# Altium integrated library Linear Technology Operational Amplifiers (LT2000-LT6000).IntLib: 1710 symbols (part 67 of 75)
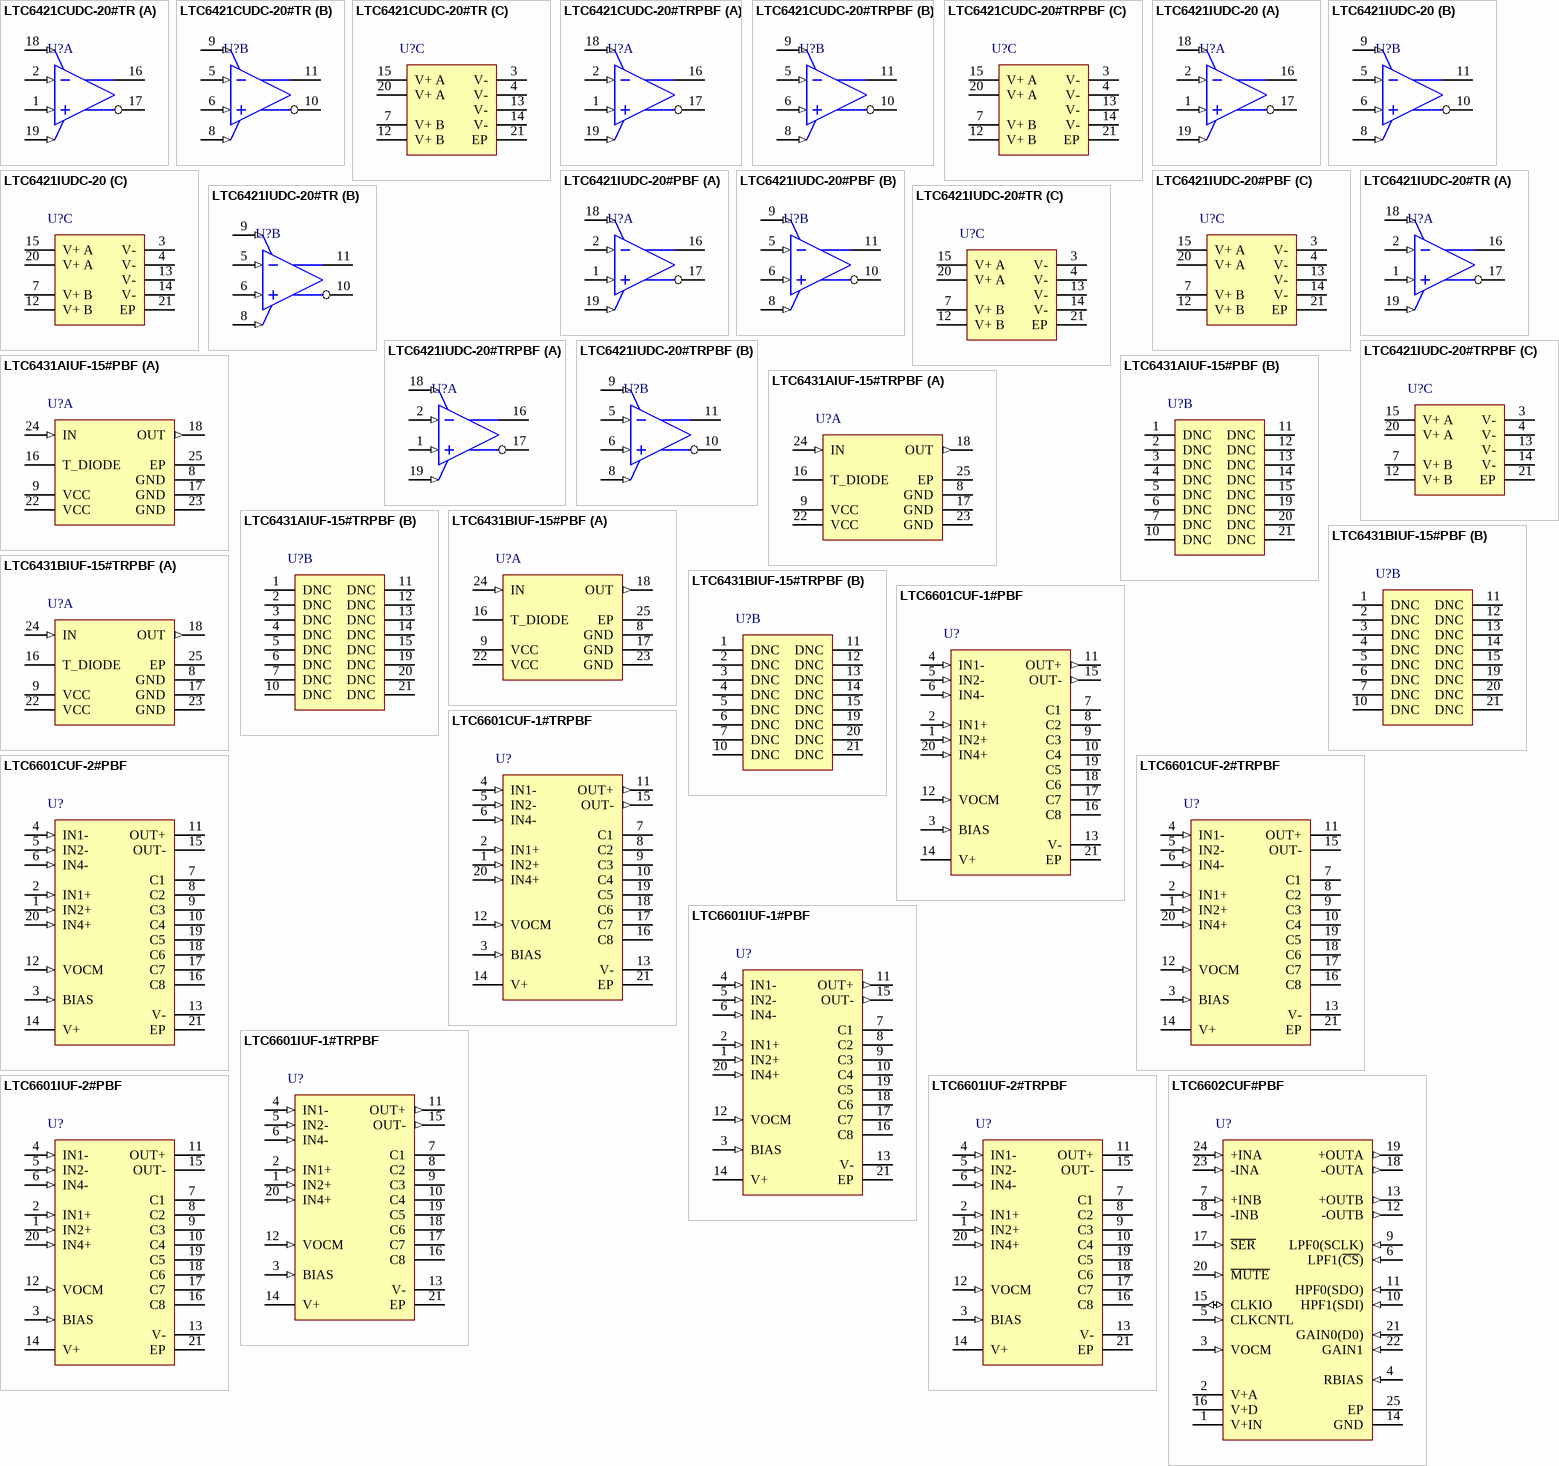
[diagram p146: symbols LTC6421CUDC-20#TR to LTC6602CUF#PBF]

## LTC6601CUF-2#PBF
designator U?
Single Channel, Low Power, Low Distortion, Pin Configurable Filter / ADC Driver, 28 MHz Typical GBW, 2.7 to 5.25 V, 20-Pin QFN (UF20), Commercial, Pb-Free; Linear Technology Part Number: LTC6601-2; Manufacturer: Linear Technology; PartNumber: LTC6601CUF-2#PBF; Channels (#): 1; GBW (MHz) Typical: 28; Is (mA) Typical: 32; Vos (mV) Typical: 0.25; Vs Max (V): 5.25; Vs Min (V): 2.7; PackageVersion: Rev A; PackageReference: LT-UF-20; PackageDescription: 20-Lead Plastic QFN, Body 4 x 4 mm, Pitch 0.5 mm; Supplier 1: Digi-Key; Supplier Part Number 1: LTC6601CUF-2#PBF-ND; Supplier 2: Farnell; Supplier Part Number 2: 1710921; Supplier 3: Newark; Supplier Part Number 3: 05R7681; RoHS: Pb-Free; Type: DIFF; Mounting Technology: Surface Mount; Code_JEDEC: MO-220; ComponentLink1Description: Manufacturer URL; ComponentLink1URL: http://www.linear.com/; ComponentLink2Description: Datasheet; ComponentLink2URL: http://cds.linear.com/docs/en/datasheet/66012f.pdf; ComponentLink3Description: Package Specification; ComponentLink3URL: http://cds.linear.com/docs/en/packaging/QFN_20_05-08-1710.pdf
footprint LT-UF-20_N (QFN, 20-Leads, Body 4x4mm, Pitch 0.5mm, Thermal Pad 2.45x2.45mm, IPC Medium Density)
footprint LT-UF-20_L (QFN, 20-Leads, Body 4x4mm, Pitch 0.5mm, Thermal Pad 2.45x2.45mm, IPC High Density)
footprint LT-UF-20_M (QFN, 20-Leads, Body 4x4mm, Pitch 0.5mm, Thermal Pad 2.45x2.45mm, IPC Low Density)
pins: 1 IN2+ (in) "Input to a trimmed 100ohm, 200ohm, 400ohm resistor which feeds a noninverting summing node. Can accept an input signal, be floated or tied to OUT-. For best performance, stray capacitance should be kept as low as possible by (See Datasheet)", 2 IN1+ (in) "Input to a trimmed 100ohm, 200ohm, 400ohm resistor which feeds a noninverting summing node. Can accept an input signal, be floated or tied to OUT-. For best performance, stray capacitance should be kept as low as possible by (See Datasheet)", 3 BIAS (in) "Input to a three-state comparator whose three states allow the user to tailor amplifier power. The pin impedance appears as a 150k resistor whose default open-circuit potential is 1.15V with respect to the V- power supply. (See Datasheet)", 4 IN1- (in) "Input to a trimmed 100ohm, 200ohm, 400ohm resistor which feeds an inverting summing node. Can accept an input signal, be floated or tied to OUT+. For best performance, it is highly recommended that stray capacitance be kept (See Datasheet)", 5 IN2- (in) "Input to a trimmed 100ohm, 200ohm, 400ohm resistor which feeds an inverting summing node. Can accept an input signal, be floated or tied to OUT+. For best performance, it is highly recommended that stray capacitance be kept (See Datasheet)", 6 IN4- (in) "Input to a trimmed 100ohm, 200ohm, 400ohm resistor which feeds an inverting summing node. Can accept an input signal, be floated or tied to OUT+. For best performance, it is highly recommended that stray capacitance be kept (See Datasheet)", 7 C1 "Input to a trimmed 16.1pF, 33.3pF capacitor which feeds a noninverting summing node. Typically, either float or tie to OUT-. If either of these pins is tied to a low impedance source other than OUT-, a resistance of at least (See Datasheet)", 8 C2 "Input to a trimmed 16.1pF, 33.3pF capacitor which feeds a noninverting summing node. Typically, either float or tie to OUT-. If either of these pins is tied to a low impedance source other than OUT-, a resistance of at least (See Datasheet)", 9 C3 "Input to a trimmed 10.55pF, 21.1pF capacitor which feeds the amplifier inverting summing node. Typically, either float or tie to OUT+. For best performance, it is highly recommended that stray capacitance be kept to as low (See Datasheet)", 10 C4 "Input to a trimmed 10.55pF, 21.1pF capacitor which feeds the amplifier inverting summing node. Typically, either float or tie to OUT+. For best performance, it is highly recommended that stray capacitance be kept to as low (See Datasheet)", 11 OUT+ (oc) "Output Pins. Besides driving the internal feedback network, each pin can drive an additional 50ohm to ground with typical short-circuit current limiting of +/-65mA. Capacitive loading of these pins should be minimized by (See Datasheet)", 12 VOCM (in) "Output Common Mode Reference Voltage. The voltage on VOCM sets the output common mode voltage level (which is defi ned as the average of the voltages on the OUT+ and OUT- pins). The VOCM pin is the midpoint of an internal (See Datasheet)", 13 V- (power) "Power Supply Pins. It is critical that close attention be paid to supply bypassing. For single supply applications (Pin 13 grounded), it is recommended that a high quality 0.1uF surface mount ceramic bypass capacitor (X7R (See Datasheet)", 14 V+ (power) "Power Supply Pins. It is critical that close attention be paid to supply bypassing. For single supply applications (Pin 13 grounded), it is recommended that a high quality 0.1uF surface mount ceramic bypass capacitor (X7R (See Datasheet)", 15 OUT- (oc) "Output Pins. Besides driving the internal feedback network, each pin can drive an additional 50ohm to ground with typical short-circuit current limiting of +/-65mA. Capacitive loading of these pins should be minimized by (See Datasheet)", 16 C8 "Input to a trimmed 10.55pF, 21.1pF capacitor which feeds the amplifier noninverting summing node. Typically, either fl oat or tie to OUT-. For best performance, stray capacitance should be kept as low as possible by keeping (See Datasheet)", 17 C7 "Input to a trimmed 10.55pF, 21.1pF capacitor which feeds the amplifier noninverting summing node. Typically, either fl oat or tie to OUT-. For best performance, stray capacitance should be kept as low as possible by keeping (See Datasheet)", 18 C6 "Input to a trimmed 16.1pF, 33.3pF capacitor which feeds an inverting summing node. Typically, either float or tie to OUT+. If either of these pins are tied to a low impedance source other than OUT+, a resistance of at least (See Datasheet)", 19 C5 "Input to a trimmed 16.1pF, 33.3pF capacitor which feeds an inverting summing node. Typically, either float or tie to OUT+. If either of these pins are tied to a low impedance source other than OUT+, a resistance of at least (See Datasheet)", 20 IN4+ (in) "Input to a trimmed 100ohm, 200ohm, 400ohm resistor which feeds a noninverting summing node. Can accept an input signal, be floated or tied to OUT-. For best performance, stray capacitance should be kept as low as possible by (See Datasheet)", 21 EP (power) "Always tie the underlying Exposed Pad to V- (Pin 13). If split supplies are used, do not tie the pad to ground. Tie it to V-."

## LTC6601CUF-2#TRPBF
designator U?
Single Channel, Low Power, Low Distortion, Pin Configurable Filter / ADC Driver, 28 MHz Typical GBW, 2.7 to 5.25 V, 20-Pin QFN (UF20), Commercial, Pb-Free, Reel; Linear Technology Part Number: LTC6601-2; Manufacturer: Linear Technology; PartNumber: LTC6601CUF-2#TRPBF; Channels (#): 1; GBW (MHz) Typical: 28; Is (mA) Typical: 32; Vos (mV) Typical: 0.25; Vs Max (V): 5.25; Vs Min (V): 2.7; PackageVersion: Rev A; PackageReference: LT-UF-20; PackageDescription: 20-Lead Plastic QFN, Body 4 x 4 mm, Pitch 0.5 mm; Supplier 1: Digi-Key; Supplier Part Number 1: LTC6601CUF-2#TRPBF-ND; Packing: Reel; RoHS: Pb-Free; Type: DIFF; Mounting Technology: Surface Mount; Code_JEDEC: MO-220; ComponentLink1Description: Manufacturer URL; ComponentLink1URL: http://www.linear.com/; ComponentLink2Description: Datasheet; ComponentLink2URL: http://cds.linear.com/docs/en/datasheet/66012f.pdf; ComponentLink3Description: Package Specification; ComponentLink3URL: http://cds.linear.com/docs/en/packaging/QFN_20_05-08-1710.pdf
footprint LT-UF-20_N (QFN, 20-Leads, Body 4x4mm, Pitch 0.5mm, Thermal Pad 2.45x2.45mm, IPC Medium Density)
footprint LT-UF-20_L (QFN, 20-Leads, Body 4x4mm, Pitch 0.5mm, Thermal Pad 2.45x2.45mm, IPC High Density)
footprint LT-UF-20_M (QFN, 20-Leads, Body 4x4mm, Pitch 0.5mm, Thermal Pad 2.45x2.45mm, IPC Low Density)
pins: 1 IN2+ (in) "Input to a trimmed 100ohm, 200ohm, 400ohm resistor which feeds a noninverting summing node. Can accept an input signal, be floated or tied to OUT-. For best performance, stray capacitance should be kept as low as possible by (See Datasheet)", 2 IN1+ (in) "Input to a trimmed 100ohm, 200ohm, 400ohm resistor which feeds a noninverting summing node. Can accept an input signal, be floated or tied to OUT-. For best performance, stray capacitance should be kept as low as possible by (See Datasheet)", 3 BIAS (in) "Input to a three-state comparator whose three states allow the user to tailor amplifier power. The pin impedance appears as a 150k resistor whose default open-circuit potential is 1.15V with respect to the V- power supply. (See Datasheet)", 4 IN1- (in) "Input to a trimmed 100ohm, 200ohm, 400ohm resistor which feeds an inverting summing node. Can accept an input signal, be floated or tied to OUT+. For best performance, it is highly recommended that stray capacitance be kept (See Datasheet)", 5 IN2- (in) "Input to a trimmed 100ohm, 200ohm, 400ohm resistor which feeds an inverting summing node. Can accept an input signal, be floated or tied to OUT+. For best performance, it is highly recommended that stray capacitance be kept (See Datasheet)", 6 IN4- (in) "Input to a trimmed 100ohm, 200ohm, 400ohm resistor which feeds an inverting summing node. Can accept an input signal, be floated or tied to OUT+. For best performance, it is highly recommended that stray capacitance be kept (See Datasheet)", 7 C1 "Input to a trimmed 16.1pF, 33.3pF capacitor which feeds a noninverting summing node. Typically, either float or tie to OUT-. If either of these pins is tied to a low impedance source other than OUT-, a resistance of at least (See Datasheet)", 8 C2 "Input to a trimmed 16.1pF, 33.3pF capacitor which feeds a noninverting summing node. Typically, either float or tie to OUT-. If either of these pins is tied to a low impedance source other than OUT-, a resistance of at least (See Datasheet)", 9 C3 "Input to a trimmed 10.55pF, 21.1pF capacitor which feeds the amplifier inverting summing node. Typically, either float or tie to OUT+. For best performance, it is highly recommended that stray capacitance be kept to as low (See Datasheet)", 10 C4 "Input to a trimmed 10.55pF, 21.1pF capacitor which feeds the amplifier inverting summing node. Typically, either float or tie to OUT+. For best performance, it is highly recommended that stray capacitance be kept to as low (See Datasheet)", 11 OUT+ (oc) "Output Pins. Besides driving the internal feedback network, each pin can drive an additional 50ohm to ground with typical short-circuit current limiting of +/-65mA. Capacitive loading of these pins should be minimized by (See Datasheet)", 12 VOCM (in) "Output Common Mode Reference Voltage. The voltage on VOCM sets the output common mode voltage level (which is defi ned as the average of the voltages on the OUT+ and OUT- pins). The VOCM pin is the midpoint of an internal (See Datasheet)", 13 V- (power) "Power Supply Pins. It is critical that close attention be paid to supply bypassing. For single supply applications (Pin 13 grounded), it is recommended that a high quality 0.1uF surface mount ceramic bypass capacitor (X7R (See Datasheet)", 14 V+ (power) "Power Supply Pins. It is critical that close attention be paid to supply bypassing. For single supply applications (Pin 13 grounded), it is recommended that a high quality 0.1uF surface mount ceramic bypass capacitor (X7R (See Datasheet)", 15 OUT- (oc) "Output Pins. Besides driving the internal feedback network, each pin can drive an additional 50ohm to ground with typical short-circuit current limiting of +/-65mA. Capacitive loading of these pins should be minimized by (See Datasheet)", 16 C8 "Input to a trimmed 10.55pF, 21.1pF capacitor which feeds the amplifier noninverting summing node. Typically, either fl oat or tie to OUT-. For best performance, stray capacitance should be kept as low as possible by keeping (See Datasheet)", 17 C7 "Input to a trimmed 10.55pF, 21.1pF capacitor which feeds the amplifier noninverting summing node. Typically, either fl oat or tie to OUT-. For best performance, stray capacitance should be kept as low as possible by keeping (See Datasheet)", 18 C6 "Input to a trimmed 16.1pF, 33.3pF capacitor which feeds an inverting summing node. Typically, either float or tie to OUT+. If either of these pins are tied to a low impedance source other than OUT+, a resistance of at least (See Datasheet)", 19 C5 "Input to a trimmed 16.1pF, 33.3pF capacitor which feeds an inverting summing node. Typically, either float or tie to OUT+. If either of these pins are tied to a low impedance source other than OUT+, a resistance of at least (See Datasheet)", 20 IN4+ (in) "Input to a trimmed 100ohm, 200ohm, 400ohm resistor which feeds a noninverting summing node. Can accept an input signal, be floated or tied to OUT-. For best performance, stray capacitance should be kept as low as possible by (See Datasheet)", 21 EP (power) "Always tie the underlying Exposed Pad to V- (Pin 13). If split supplies are used, do not tie the pad to ground. Tie it to V-."

## LTC6601IUF-1#PBF
designator U?
Single Channel, Low Noise, 0.5% Tolerance, Pin Configurable Filter / ADC Driver, 28 MHz Typical GBW, 2.7 to 5.25 V, 20-Pin QFN (UF20), Industrial, Pb-Free; Linear Technology Part Number: LTC6601-1; Manufacturer: Linear Technology; PartNumber: LTC6601IUF-1#PBF; Channels (#): 1; GBW (MHz) Typical: 28; Is (mA) Typical: 32.9; Vos (mV) Typical: 5; Vs Max (V): 5.25; Vs Min (V): 2.7; PackageVersion: Rev A; PackageReference: LT-UF-20; PackageDescription: 20-Lead Plastic QFN, Body 4 x 4 mm, Pitch 0.5 mm; Supplier 1: Digi-Key; Supplier Part Number 1: LTC6601IUF-1#PBF-ND; Supplier 2: Newark; Supplier Part Number 2: 19P0742; RoHS: Pb-Free; Type: DIFF; Mounting Technology: Surface Mount; Code_JEDEC: MO-220; ComponentLink1Description: Manufacturer URL; ComponentLink1URL: http://www.linear.com/; ComponentLink2Description: Datasheet; ComponentLink2URL: http://cds.linear.com/docs/en/datasheet/66011f.pdf; ComponentLink3Description: Package Specification; ComponentLink3URL: http://cds.linear.com/docs/en/packaging/QFN_20_05-08-1710.pdf
footprint LT-UF-20_N (QFN, 20-Leads, Body 4x4mm, Pitch 0.5mm, Thermal Pad 2.45x2.45mm, IPC Medium Density)
footprint LT-UF-20_L (QFN, 20-Leads, Body 4x4mm, Pitch 0.5mm, Thermal Pad 2.45x2.45mm, IPC High Density)
footprint LT-UF-20_M (QFN, 20-Leads, Body 4x4mm, Pitch 0.5mm, Thermal Pad 2.45x2.45mm, IPC Low Density)
pins: 1 IN2+ (in) "Input to a trimmed 100 ohm,200 ohm, 400 ohm resistor which feeds a noninverting summing node. Can accept an input signal, be floated or tied to OUT-.For best performance, stray capacitance should be kept as low as possible (See Datasheet)", 2 IN1+ (in) "Input to a trimmed 100 ohm,200 ohm, 400 ohm resistor which feeds a noninverting summing node. Can accept an input signal, be floated or tied to OUT-.For best performance, stray capacitance should be kept as low as possible (See Datasheet)", 3 BIAS (in) "Input to a three-state comparator whose three states allow the user to tailor amplifi er power. The pin impedance appears as a 150k resistor whose default open-circuit potential is 1.15V with respect to the V- power supply. (See Datasheet)", 4 IN1- (in) "Input to a trimmed 100 ohm,200 ohm, 400 ohm resistor which feeds an inverting summing node. Can accept an input signal, be floated or tied to OUT+. For best performance, it is highly recommended that stray capacitance be (See Datasheet)", 5 IN2- (in) "Input to a trimmed 100 ohm,200 ohm, 400 ohm resistor which feeds an inverting summing node. Can accept an input signal, be floated or tied to OUT+. For best performance, it is highly recommended that stray capacitance be (See Datasheet)", 6 IN4- (in) "Input to a trimmed 100 ohm,200 ohm, 400 ohm resistor which feeds an inverting summing node. Can accept an input signal, be floated or tied to OUT+. For best performance, it is highly recommended that stray capacitance be (See Datasheet)", 7 C1 "Input to a trimmed 16.1pF, 33.3pF capacitor which feeds a noninverting summing node.Typically, either fl oat or tie to OUT-. If either of these pins is tied to a low impedance source other than OUT-,a resistance of at least (See Datasheet)", 8 C2 "Input to a trimmed 16.1pF, 33.3pF capacitor which feeds a noninverting summing node.Typically, either fl oat or tie to OUT-. If either of these pins is tied to a low impedance source other than OUT-,a resistance of at least (See Datasheet)", 9 C3 "Input to a trimmed 10.55pF, 21.1pF capacitor which feeds the amplifier inverting summing node. Typically, either float or tie to OUT+. For best performance,it is highly recommended that stray capacitance be kept to as low as (See Datasheet)", 10 C4 "Input to a trimmed 10.55pF, 21.1pF capacitor which feeds the amplifier inverting summing node. Typically, either float or tie to OUT+. For best performance,it is highly recommended that stray capacitance be kept to as low as (See Datasheet)", 11 OUT+ (out) "Output Pins. Besides driving the internal feedback network, each pin can drive an additional 50 ohm to ground with typical short-circuit current limiting of +/-65mA. Capacitive loading of these pins should be minimized by (See Datasheet)", 12 VOCM (in) "Output Common Mode Reference Voltage.The voltage on VOCM sets the output common mode voltage level (which is defi ned as the average of the voltages on the OUT+ and OUT-pins). The VOCM pin is the midpoint of an internal (See Datasheet)", 13 V- (power) "Power Supply Pins. It is critical that close attention be paid to supply bypassing. For single supply applications (Pin 13 grounded), it is recommended that a high quality 0.1uF surface mount ceramic bypass capacitor (X7R (See Datasheet)", 14 V+ (power) "Power Supply Pins. It is critical that close attention be paid to supply bypassing. For single supply applications (Pin 13 grounded), it is recommended that a high quality 0.1uF surface mount ceramic bypass capacitor (X7R (See Datasheet)", 15 OUT- (out) "Output Pins. Besides driving the internal feedback network, each pin can drive an additional 50 ohm to ground with typical short-circuit current limiting of +/-65mA. Capacitive loading of these pins should be minimized by (See Datasheet)", 16 C8 "Input to a trimmed 10.55pF, 21.1pF capacitor which feeds the amplifier noninverting summing node. Typically, either float or tie to OUT-. For best performance, stray capacitance should be kept as low as possible by keeping (See Datasheet)", 17 C7 "Input to a trimmed 10.55pF, 21.1pF capacitor which feeds the amplifier noninverting summing node. Typically, either float or tie to OUT-. For best performance, stray capacitance should be kept as low as possible by keeping (See Datasheet)", 18 C6 "Input to a trimmed 16.1pF, 33.3pF capacitor which feeds an inverting summing node. Typically,either fl oat or tie to OUT+. If either of these pins are tied to a low impedance source other than OUT+, a resistance of at least (See Datasheet)", 19 C5 "Input to a trimmed 16.1pF, 33.3pF capacitor which feeds an inverting summing node. Typically,either fl oat or tie to OUT+. If either of these pins are tied to a low impedance source other than OUT+, a resistance of at least (See Datasheet)", 20 IN4+ (in) "Input to a trimmed 100 ohm,200 ohm, 400 ohm resistor which feeds a noninverting summing node. Can accept an input signal, be fl oated or tied to OUT-.For best performance, stray capacitance should be kept as low as possible (See Datasheet)", 21 EP (power) "Always tie the underlying Exposed Pad to V- (Pin 13). If split supplies are used, do not tie the pad to ground. Tie it to V-."

## LTC6601IUF-1#TRPBF
designator U?
Single Channel, Low Noise, 0.5% Tolerance, Pin Configurable Filter / ADC Driver, 28 MHz Typical GBW, 2.7 to 5.25 V, 20-Pin QFN (UF20), Industrial, Pb-Free, Reel; Linear Technology Part Number: LTC6601-1; Manufacturer: Linear Technology; PartNumber: LTC6601IUF-1#TRPBF; Channels (#): 1; GBW (MHz) Typical: 28; Is (mA) Typical: 32.9; Vos (mV) Typical: 5; Vs Max (V): 5.25; Vs Min (V): 2.7; PackageVersion: Rev A; PackageReference: LT-UF-20; PackageDescription: 20-Lead Plastic QFN, Body 4 x 4 mm, Pitch 0.5 mm; Supplier 1: Digi-Key; Supplier Part Number 1: LTC6601IUF-1#TRPBF-ND; Packing: Reel; RoHS: Pb-Free; Type: DIFF; Mounting Technology: Surface Mount; Code_JEDEC: MO-220; ComponentLink1Description: Manufacturer URL; ComponentLink1URL: http://www.linear.com/; ComponentLink2Description: Datasheet; ComponentLink2URL: http://cds.linear.com/docs/en/datasheet/66011f.pdf; ComponentLink3Description: Package Specification; ComponentLink3URL: http://cds.linear.com/docs/en/packaging/QFN_20_05-08-1710.pdf
footprint LT-UF-20_N (QFN, 20-Leads, Body 4x4mm, Pitch 0.5mm, Thermal Pad 2.45x2.45mm, IPC Medium Density)
footprint LT-UF-20_L (QFN, 20-Leads, Body 4x4mm, Pitch 0.5mm, Thermal Pad 2.45x2.45mm, IPC High Density)
footprint LT-UF-20_M (QFN, 20-Leads, Body 4x4mm, Pitch 0.5mm, Thermal Pad 2.45x2.45mm, IPC Low Density)
pins: 1 IN2+ (in) "Input to a trimmed 100 ohm,200 ohm, 400 ohm resistor which feeds a noninverting summing node. Can accept an input signal, be floated or tied to OUT-.For best performance, stray capacitance should be kept as low as possible (See Datasheet)", 2 IN1+ (in) "Input to a trimmed 100 ohm,200 ohm, 400 ohm resistor which feeds a noninverting summing node. Can accept an input signal, be floated or tied to OUT-.For best performance, stray capacitance should be kept as low as possible (See Datasheet)", 3 BIAS (in) "Input to a three-state comparator whose three states allow the user to tailor amplifi er power. The pin impedance appears as a 150k resistor whose default open-circuit potential is 1.15V with respect to the V- power supply. (See Datasheet)", 4 IN1- (in) "Input to a trimmed 100 ohm,200 ohm, 400 ohm resistor which feeds an inverting summing node. Can accept an input signal, be floated or tied to OUT+. For best performance, it is highly recommended that stray capacitance be (See Datasheet)", 5 IN2- (in) "Input to a trimmed 100 ohm,200 ohm, 400 ohm resistor which feeds an inverting summing node. Can accept an input signal, be floated or tied to OUT+. For best performance, it is highly recommended that stray capacitance be (See Datasheet)", 6 IN4- (in) "Input to a trimmed 100 ohm,200 ohm, 400 ohm resistor which feeds an inverting summing node. Can accept an input signal, be floated or tied to OUT+. For best performance, it is highly recommended that stray capacitance be (See Datasheet)", 7 C1 "Input to a trimmed 16.1pF, 33.3pF capacitor which feeds a noninverting summing node.Typically, either fl oat or tie to OUT-. If either of these pins is tied to a low impedance source other than OUT-,a resistance of at least (See Datasheet)", 8 C2 "Input to a trimmed 16.1pF, 33.3pF capacitor which feeds a noninverting summing node.Typically, either fl oat or tie to OUT-. If either of these pins is tied to a low impedance source other than OUT-,a resistance of at least (See Datasheet)", 9 C3 "Input to a trimmed 10.55pF, 21.1pF capacitor which feeds the amplifier inverting summing node. Typically, either float or tie to OUT+. For best performance,it is highly recommended that stray capacitance be kept to as low as (See Datasheet)", 10 C4 "Input to a trimmed 10.55pF, 21.1pF capacitor which feeds the amplifier inverting summing node. Typically, either float or tie to OUT+. For best performance,it is highly recommended that stray capacitance be kept to as low as (See Datasheet)", 11 OUT+ (out) "Output Pins. Besides driving the internal feedback network, each pin can drive an additional 50 ohm to ground with typical short-circuit current limiting of +/-65mA. Capacitive loading of these pins should be minimized by (See Datasheet)", 12 VOCM (in) "Output Common Mode Reference Voltage.The voltage on VOCM sets the output common mode voltage level (which is defi ned as the average of the voltages on the OUT+ and OUT-pins). The VOCM pin is the midpoint of an internal (See Datasheet)", 13 V- (power) "Power Supply Pins. It is critical that close attention be paid to supply bypassing. For single supply applications (Pin 13 grounded), it is recommended that a high quality 0.1uF surface mount ceramic bypass capacitor (X7R (See Datasheet)", 14 V+ (power) "Power Supply Pins. It is critical that close attention be paid to supply bypassing. For single supply applications (Pin 13 grounded), it is recommended that a high quality 0.1uF surface mount ceramic bypass capacitor (X7R (See Datasheet)", 15 OUT- (out) "Output Pins. Besides driving the internal feedback network, each pin can drive an additional 50 ohm to ground with typical short-circuit current limiting of +/-65mA. Capacitive loading of these pins should be minimized by (See Datasheet)", 16 C8 "Input to a trimmed 10.55pF, 21.1pF capacitor which feeds the amplifier noninverting summing node. Typically, either float or tie to OUT-. For best performance, stray capacitance should be kept as low as possible by keeping (See Datasheet)", 17 C7 "Input to a trimmed 10.55pF, 21.1pF capacitor which feeds the amplifier noninverting summing node. Typically, either float or tie to OUT-. For best performance, stray capacitance should be kept as low as possible by keeping (See Datasheet)", 18 C6 "Input to a trimmed 16.1pF, 33.3pF capacitor which feeds an inverting summing node. Typically,either fl oat or tie to OUT+. If either of these pins are tied to a low impedance source other than OUT+, a resistance of at least (See Datasheet)", 19 C5 "Input to a trimmed 16.1pF, 33.3pF capacitor which feeds an inverting summing node. Typically,either fl oat or tie to OUT+. If either of these pins are tied to a low impedance source other than OUT+, a resistance of at least (See Datasheet)", 20 IN4+ (in) "Input to a trimmed 100 ohm,200 ohm, 400 ohm resistor which feeds a noninverting summing node. Can accept an input signal, be fl oated or tied to OUT-.For best performance, stray capacitance should be kept as low as possible (See Datasheet)", 21 EP (power) "Always tie the underlying Exposed Pad to V- (Pin 13). If split supplies are used, do not tie the pad to ground. Tie it to V-."

## LTC6601IUF-2#PBF
designator U?
Single Channel, Low Power, Low Distortion, Pin Configurable Filter / ADC Driver, 28 MHz Typical GBW, 2.7 to 5.25 V, 20-Pin QFN (UF20), Industrial, Pb-Free; Linear Technology Part Number: LTC6601-2; Manufacturer: Linear Technology; PartNumber: LTC6601IUF-2#PBF; Channels (#): 1; GBW (MHz) Typical: 28; Is (mA) Typical: 32; Vos (mV) Typical: 0.25; Vs Max (V): 5.25; Vs Min (V): 2.7; PackageVersion: Rev A; PackageReference: LT-UF-20; PackageDescription: 20-Lead Plastic QFN, Body 4 x 4 mm, Pitch 0.5 mm; Supplier 1: Digi-Key; Supplier Part Number 1: LTC6601IUF-2#PBF-ND; Supplier 2: Farnell; Supplier Part Number 2: 1710922; Supplier 3: Newark; Supplier Part Number 3: 05R7683; RoHS: Pb-Free; Type: DIFF; Mounting Technology: Surface Mount; Code_JEDEC: MO-220; ComponentLink1Description: Manufacturer URL; ComponentLink1URL: http://www.linear.com/; ComponentLink2Description: Datasheet; ComponentLink2URL: http://cds.linear.com/docs/en/datasheet/66012f.pdf; ComponentLink3Description: Package Specification; ComponentLink3URL: http://cds.linear.com/docs/en/packaging/QFN_20_05-08-1710.pdf
footprint LT-UF-20_N (QFN, 20-Leads, Body 4x4mm, Pitch 0.5mm, Thermal Pad 2.45x2.45mm, IPC Medium Density)
footprint LT-UF-20_L (QFN, 20-Leads, Body 4x4mm, Pitch 0.5mm, Thermal Pad 2.45x2.45mm, IPC High Density)
footprint LT-UF-20_M (QFN, 20-Leads, Body 4x4mm, Pitch 0.5mm, Thermal Pad 2.45x2.45mm, IPC Low Density)
pins: 1 IN2+ (in) "Input to a trimmed 100ohm, 200ohm, 400ohm resistor which feeds a noninverting summing node. Can accept an input signal, be floated or tied to OUT-. For best performance, stray capacitance should be kept as low as possible by (See Datasheet)", 2 IN1+ (in) "Input to a trimmed 100ohm, 200ohm, 400ohm resistor which feeds a noninverting summing node. Can accept an input signal, be floated or tied to OUT-. For best performance, stray capacitance should be kept as low as possible by (See Datasheet)", 3 BIAS (in) "Input to a three-state comparator whose three states allow the user to tailor amplifier power. The pin impedance appears as a 150k resistor whose default open-circuit potential is 1.15V with respect to the V- power supply. (See Datasheet)", 4 IN1- (in) "Input to a trimmed 100ohm, 200ohm, 400ohm resistor which feeds an inverting summing node. Can accept an input signal, be floated or tied to OUT+. For best performance, it is highly recommended that stray capacitance be kept (See Datasheet)", 5 IN2- (in) "Input to a trimmed 100ohm, 200ohm, 400ohm resistor which feeds an inverting summing node. Can accept an input signal, be floated or tied to OUT+. For best performance, it is highly recommended that stray capacitance be kept (See Datasheet)", 6 IN4- (in) "Input to a trimmed 100ohm, 200ohm, 400ohm resistor which feeds an inverting summing node. Can accept an input signal, be floated or tied to OUT+. For best performance, it is highly recommended that stray capacitance be kept (See Datasheet)", 7 C1 "Input to a trimmed 16.1pF, 33.3pF capacitor which feeds a noninverting summing node. Typically, either float or tie to OUT-. If either of these pins is tied to a low impedance source other than OUT-, a resistance of at least (See Datasheet)", 8 C2 "Input to a trimmed 16.1pF, 33.3pF capacitor which feeds a noninverting summing node. Typically, either float or tie to OUT-. If either of these pins is tied to a low impedance source other than OUT-, a resistance of at least (See Datasheet)", 9 C3 "Input to a trimmed 10.55pF, 21.1pF capacitor which feeds the amplifier inverting summing node. Typically, either float or tie to OUT+. For best performance, it is highly recommended that stray capacitance be kept to as low (See Datasheet)", 10 C4 "Input to a trimmed 10.55pF, 21.1pF capacitor which feeds the amplifier inverting summing node. Typically, either float or tie to OUT+. For best performance, it is highly recommended that stray capacitance be kept to as low (See Datasheet)", 11 OUT+ (oc) "Output Pins. Besides driving the internal feedback network, each pin can drive an additional 50ohm to ground with typical short-circuit current limiting of +/-65mA. Capacitive loading of these pins should be minimized by (See Datasheet)", 12 VOCM (in) "Output Common Mode Reference Voltage. The voltage on VOCM sets the output common mode voltage level (which is defi ned as the average of the voltages on the OUT+ and OUT- pins). The VOCM pin is the midpoint of an internal (See Datasheet)", 13 V- (power) "Power Supply Pins. It is critical that close attention be paid to supply bypassing. For single supply applications (Pin 13 grounded), it is recommended that a high quality 0.1uF surface mount ceramic bypass capacitor (X7R (See Datasheet)", 14 V+ (power) "Power Supply Pins. It is critical that close attention be paid to supply bypassing. For single supply applications (Pin 13 grounded), it is recommended that a high quality 0.1uF surface mount ceramic bypass capacitor (X7R (See Datasheet)", 15 OUT- (oc) "Output Pins. Besides driving the internal feedback network, each pin can drive an additional 50ohm to ground with typical short-circuit current limiting of +/-65mA. Capacitive loading of these pins should be minimized by (See Datasheet)", 16 C8 "Input to a trimmed 10.55pF, 21.1pF capacitor which feeds the amplifier noninverting summing node. Typically, either fl oat or tie to OUT-. For best performance, stray capacitance should be kept as low as possible by keeping (See Datasheet)", 17 C7 "Input to a trimmed 10.55pF, 21.1pF capacitor which feeds the amplifier noninverting summing node. Typically, either fl oat or tie to OUT-. For best performance, stray capacitance should be kept as low as possible by keeping (See Datasheet)", 18 C6 "Input to a trimmed 16.1pF, 33.3pF capacitor which feeds an inverting summing node. Typically, either float or tie to OUT+. If either of these pins are tied to a low impedance source other than OUT+, a resistance of at least (See Datasheet)", 19 C5 "Input to a trimmed 16.1pF, 33.3pF capacitor which feeds an inverting summing node. Typically, either float or tie to OUT+. If either of these pins are tied to a low impedance source other than OUT+, a resistance of at least (See Datasheet)", 20 IN4+ (in) "Input to a trimmed 100ohm, 200ohm, 400ohm resistor which feeds a noninverting summing node. Can accept an input signal, be floated or tied to OUT-. For best performance, stray capacitance should be kept as low as possible by (See Datasheet)", 21 EP (power) "Always tie the underlying Exposed Pad to V- (Pin 13). If split supplies are used, do not tie the pad to ground. Tie it to V-."

## LTC6601IUF-2#TRPBF
designator U?
Single Channel, Low Power, Low Distortion, Pin Configurable Filter / ADC Driver, 28 MHz Typical GBW, 2.7 to 5.25 V, 20-Pin QFN (UF20), Industrial, Pb-Free, Reel; Linear Technology Part Number: LTC6601-2; Manufacturer: Linear Technology; PartNumber: LTC6601IUF-2#TRPBF; Channels (#): 1; GBW (MHz) Typical: 28; Is (mA) Typical: 32; Vos (mV) Typical: 0.25; Vs Max (V): 5.25; Vs Min (V): 2.7; PackageVersion: Rev A; PackageReference: LT-UF-20; PackageDescription: 20-Lead Plastic QFN, Body 4 x 4 mm, Pitch 0.5 mm; Supplier 1: Digi-Key; Supplier Part Number 1: LTC6601IUF-2#TRPBF-ND; Packing: Reel; RoHS: Pb-Free; Type: DIFF; Mounting Technology: Surface Mount; Code_JEDEC: MO-220; ComponentLink1Description: Manufacturer URL; ComponentLink1URL: http://www.linear.com/; ComponentLink2Description: Datasheet; ComponentLink2URL: http://cds.linear.com/docs/en/datasheet/66012f.pdf; ComponentLink3Description: Package Specification; ComponentLink3URL: http://cds.linear.com/docs/en/packaging/QFN_20_05-08-1710.pdf
footprint LT-UF-20_N (QFN, 20-Leads, Body 4x4mm, Pitch 0.5mm, Thermal Pad 2.45x2.45mm, IPC Medium Density)
footprint LT-UF-20_L (QFN, 20-Leads, Body 4x4mm, Pitch 0.5mm, Thermal Pad 2.45x2.45mm, IPC High Density)
footprint LT-UF-20_M (QFN, 20-Leads, Body 4x4mm, Pitch 0.5mm, Thermal Pad 2.45x2.45mm, IPC Low Density)
pins: 1 IN2+ (in) "Input to a trimmed 100ohm, 200ohm, 400ohm resistor which feeds a noninverting summing node. Can accept an input signal, be floated or tied to OUT-. For best performance, stray capacitance should be kept as low as possible by (See Datasheet)", 2 IN1+ (in) "Input to a trimmed 100ohm, 200ohm, 400ohm resistor which feeds a noninverting summing node. Can accept an input signal, be floated or tied to OUT-. For best performance, stray capacitance should be kept as low as possible by (See Datasheet)", 3 BIAS (in) "Input to a three-state comparator whose three states allow the user to tailor amplifier power. The pin impedance appears as a 150k resistor whose default open-circuit potential is 1.15V with respect to the V- power supply. (See Datasheet)", 4 IN1- (in) "Input to a trimmed 100ohm, 200ohm, 400ohm resistor which feeds an inverting summing node. Can accept an input signal, be floated or tied to OUT+. For best performance, it is highly recommended that stray capacitance be kept (See Datasheet)", 5 IN2- (in) "Input to a trimmed 100ohm, 200ohm, 400ohm resistor which feeds an inverting summing node. Can accept an input signal, be floated or tied to OUT+. For best performance, it is highly recommended that stray capacitance be kept (See Datasheet)", 6 IN4- (in) "Input to a trimmed 100ohm, 200ohm, 400ohm resistor which feeds an inverting summing node. Can accept an input signal, be floated or tied to OUT+. For best performance, it is highly recommended that stray capacitance be kept (See Datasheet)", 7 C1 "Input to a trimmed 16.1pF, 33.3pF capacitor which feeds a noninverting summing node. Typically, either float or tie to OUT-. If either of these pins is tied to a low impedance source other than OUT-, a resistance of at least (See Datasheet)", 8 C2 "Input to a trimmed 16.1pF, 33.3pF capacitor which feeds a noninverting summing node. Typically, either float or tie to OUT-. If either of these pins is tied to a low impedance source other than OUT-, a resistance of at least (See Datasheet)", 9 C3 "Input to a trimmed 10.55pF, 21.1pF capacitor which feeds the amplifier inverting summing node. Typically, either float or tie to OUT+. For best performance, it is highly recommended that stray capacitance be kept to as low (See Datasheet)", 10 C4 "Input to a trimmed 10.55pF, 21.1pF capacitor which feeds the amplifier inverting summing node. Typically, either float or tie to OUT+. For best performance, it is highly recommended that stray capacitance be kept to as low (See Datasheet)", 11 OUT+ (oc) "Output Pins. Besides driving the internal feedback network, each pin can drive an additional 50ohm to ground with typical short-circuit current limiting of +/-65mA. Capacitive loading of these pins should be minimized by (See Datasheet)", 12 VOCM (in) "Output Common Mode Reference Voltage. The voltage on VOCM sets the output common mode voltage level (which is defi ned as the average of the voltages on the OUT+ and OUT- pins). The VOCM pin is the midpoint of an internal (See Datasheet)", 13 V- (power) "Power Supply Pins. It is critical that close attention be paid to supply bypassing. For single supply applications (Pin 13 grounded), it is recommended that a high quality 0.1uF surface mount ceramic bypass capacitor (X7R (See Datasheet)", 14 V+ (power) "Power Supply Pins. It is critical that close attention be paid to supply bypassing. For single supply applications (Pin 13 grounded), it is recommended that a high quality 0.1uF surface mount ceramic bypass capacitor (X7R (See Datasheet)", 15 OUT- (oc) "Output Pins. Besides driving the internal feedback network, each pin can drive an additional 50ohm to ground with typical short-circuit current limiting of +/-65mA. Capacitive loading of these pins should be minimized by (See Datasheet)", 16 C8 "Input to a trimmed 10.55pF, 21.1pF capacitor which feeds the amplifier noninverting summing node. Typically, either fl oat or tie to OUT-. For best performance, stray capacitance should be kept as low as possible by keeping (See Datasheet)", 17 C7 "Input to a trimmed 10.55pF, 21.1pF capacitor which feeds the amplifier noninverting summing node. Typically, either fl oat or tie to OUT-. For best performance, stray capacitance should be kept as low as possible by keeping (See Datasheet)", 18 C6 "Input to a trimmed 16.1pF, 33.3pF capacitor which feeds an inverting summing node. Typically, either float or tie to OUT+. If either of these pins are tied to a low impedance source other than OUT+, a resistance of at least (See Datasheet)", 19 C5 "Input to a trimmed 16.1pF, 33.3pF capacitor which feeds an inverting summing node. Typically, either float or tie to OUT+. If either of these pins are tied to a low impedance source other than OUT+, a resistance of at least (See Datasheet)", 20 IN4+ (in) "Input to a trimmed 100ohm, 200ohm, 400ohm resistor which feeds a noninverting summing node. Can accept an input signal, be floated or tied to OUT-. For best performance, stray capacitance should be kept as low as possible by (See Datasheet)", 21 EP (power) "Always tie the underlying Exposed Pad to V- (Pin 13). If split supplies are used, do not tie the pad to ground. Tie it to V-."

## LTC6602CUF#PBF
designator U?
Dual Channel, High Frequency Bandpass / Lowpass Filter, 0.9 MHz Typical GBW, 2.7 to 3.6 V, 24-Pin QFN (UF24), Commercial, Pb-Free; Linear Technology Part Number: LTC6602; Manufacturer: Linear Technology; PartNumber: LTC6602CUF#PBF; Channels (#): 2; GBW (MHz) Typical: 0.9; Is (mA) Typical: 65; Vos (mV) Typical: 7; Vs Max (V): 3.6; Vs Min (V): 2.7; DatasheetVersion: Rev. C; PackageVersion: Rev B; PackageReference: LT-UF-24; PackageDescription: 24-Lead Plastic QFN, Body 4 x 4 mm, Pitch 0.5 mm; Supplier 1: Digi-Key; Supplier Part Number 1: LTC6602CUF#PBF-ND; Supplier 2: Newark; Supplier Part Number 2: 02P7623; RoHS: Pb-Free; Type: DIFF; Mounting Technology: Surface Mount; Code_JEDEC: MO-220; ComponentLink1Description: Manufacturer URL; ComponentLink1URL: http://www.linear.com/; ComponentLink2Description: Datasheet; ComponentLink2URL: http://cds.linear.com/docs/en/datasheet/6602fc.pdf; ComponentLink3Description: Package Specification; ComponentLink3URL: http://cds.linear.com/docs/en/packaging/%28UF24%29%20QFN%2005-08-1697%20Rev%20B.pdf
footprint LT-UF-24_N (QFN, 24-Leads, Body 4x4mm, Pitch 0.5mm, Thermal Pad 2.45x2.45mm, IPC Medium Density)
footprint LT-UF-24_L (QFN, 24-Leads, Body 4x4mm, Pitch 0.5mm, Thermal Pad 2.45x2.45mm, IPC High Density)
footprint LT-UF-24_M (QFN, 24-Leads, Body 4x4mm, Pitch 0.5mm, Thermal Pad 2.45x2.45mm, IPC Low Density)
pins: 1 V+IN (power) "Input Voltage Supply (2.7V =< V =< 5.5V). This supply must be kept free from noise and ripple. It should be bypassed directly to a ground plane with a 0.1uF capacitor unless it is tied to V+A (Pin 2). The bypass should be as (See Datasheet)", 2 V+A (power) "Analog Voltage Supply (2.7V =< V =< 3.6V). This supply must be kept free from noise and ripple. It should be bypassed directly to a ground plane with a 0.1uF capacitor. The bypass should be as close as possible to the IC.", 3 VOCM (in) "Output common mode voltage reference. If floated, an internal resistive divider sets the voltage on this pin to half the supply voltage (typically 1.5V), maximizing the dynamic range of the filter. If this pin is floated, it (See Datasheet)", 4 RBIAS (in) "Oscillator Frequency-Setting Resistor Input. The value of the resistor connected between this pin and ground determines the frequency of the master oscillator, and sets the bias currents for the filter networks. The voltage (See Datasheet)", 5 CLKCNTL (in) "Clock Control Input. This three-state input selects the function of CLKIO (Pin 15). Tying the CLKCNTL pin to ground allows the CLKIO pin to be driven by an external clock (CLKIO is the master clock input).", 6 LPF1(~{CS}) (in) "Logic Input. When in pin programmable control mode, this pin is the MSB of the lowpass cutoff frequency control code; in serial control mode, this pin is the chip select input (active low).", 7 +INB (in) "Channel B differential inputs. The input range and input resistance are described in the Applications Information section. Input voltages which exceed V+IN (Pin 1) should be avoided.", 8 -INB (in) "Channel B differential inputs. The input range and input resistance are described in the Applications Information section. Input voltages which exceed V+IN (Pin 1) should be avoided.", 9 LPF0(SCLK) (in) "Logic Input. When in pin programmable control mode, this pin is the LSB of the lowpass cutoff frequency control code; in serial control mode, this pin is the clock of the serial interface.", 10 HPF1(SDI) (in) "Logic Input. When in pin programmable control mode, this pin is the MSB of the highpass cutoff frequency control code; in serial control mode, this pin is the serial data input.", 11 HPF0(SDO) (in) "Logic Input. When in pin programmable control mode, this pin is the LSB of the highpass cutoff frequency control code; in serial control mode, this pin is the serial data output.", 12 -OUTB (out) "Channel B differential filter outputs. These pins can drive 1k and/or 50pF loads. For larger capacitive loads, an external 100ohm series resistor is recommended for each output. The common mode voltage of the filter outputs (See Datasheet)", 13 +OUTB (out) "Channel B differential filter outputs. These pins can drive 1k and/or 50pF loads. For larger capacitive loads, an external 100ohm series resistor is recommended for each output. The common mode voltage of the filter outputs (See Datasheet)", 14 GND (power) "Ground. Connect to a ground plane for best performance.", 15 CLKIO (io) "When CLKCNTL (Pin 5) is tied to ground, CLKIO is the master clock input. When CLKCNTL is floated, CLKIO is pulled to ground by a weak, 5uA pulldown. When CLKCNTL is tied to V+D (Pin 16), CLKIO is the master clock output. (See Datasheet)", 16 V+D (power) "Digital Voltage Supply (2.7V =< V =< 3.6V). This supply must be kept free from noise and ripple. It should be bypassed directly to a ground plane with a 0.1uF capacitor. The bypass should be as close as possible to the IC.", 17 ~{SER} (in) "Interface Selection Input. When tied to V+D (Pin 16), the interface is in pin programmable control mode, i.e. the filter gain and cutoff frequencies are programmed by the GAIN1, GAIN0, HPF1, HPF0, LPF1 and LPF0 pin (See Datasheet)", 18 -OUTA (out) "Channel A differential filter outputs. These pins can drive 1k and/or 50pF loads. For larger capacitive loads, an external 100ohm series resistor is recommended for each output. The common mode voltage of the filter outputs (See Datasheet)", 19 +OUTA (out) "Channel A differential filter outputs. These pins can drive 1k and/or 50pF loads. For larger capacitive loads, an external 100ohm series resistor is recommended for each output. The common mode voltage of the filter outputs (See Datasheet)", 20 ~{MUTE} (in) "MUTEX input. Drive to ground to disconnect and mute the inputs. Float or drive to V+D (Pin 16) for normal operation.", 21 GAIN0(D0) (in) "Logic Input. When in pin programmable control mode, this pin is the LSB of the gain control code; in serial control mode, this pin is the LSB of the serial control register, an output.", 22 GAIN1 (in) "Logic Input. When in pin programmable control mode, this pin is the MSB of the gain control code; in serial control mode, this pin is a no-connect.", 23 -INA (in) "Channel A differential inputs. The input range and input resistance are described in the Applications Information section. Input voltage levels can range from GND to the V+IN supply rail.", 24 +INA (in) "Channel A differential inputs. The input range and input resistance are described in the Applications Information section. Input voltage levels can range from GND to the V+IN supply rail.", 25 EP (power) "Ground. The Exposed Pad must be soldered to PCB."

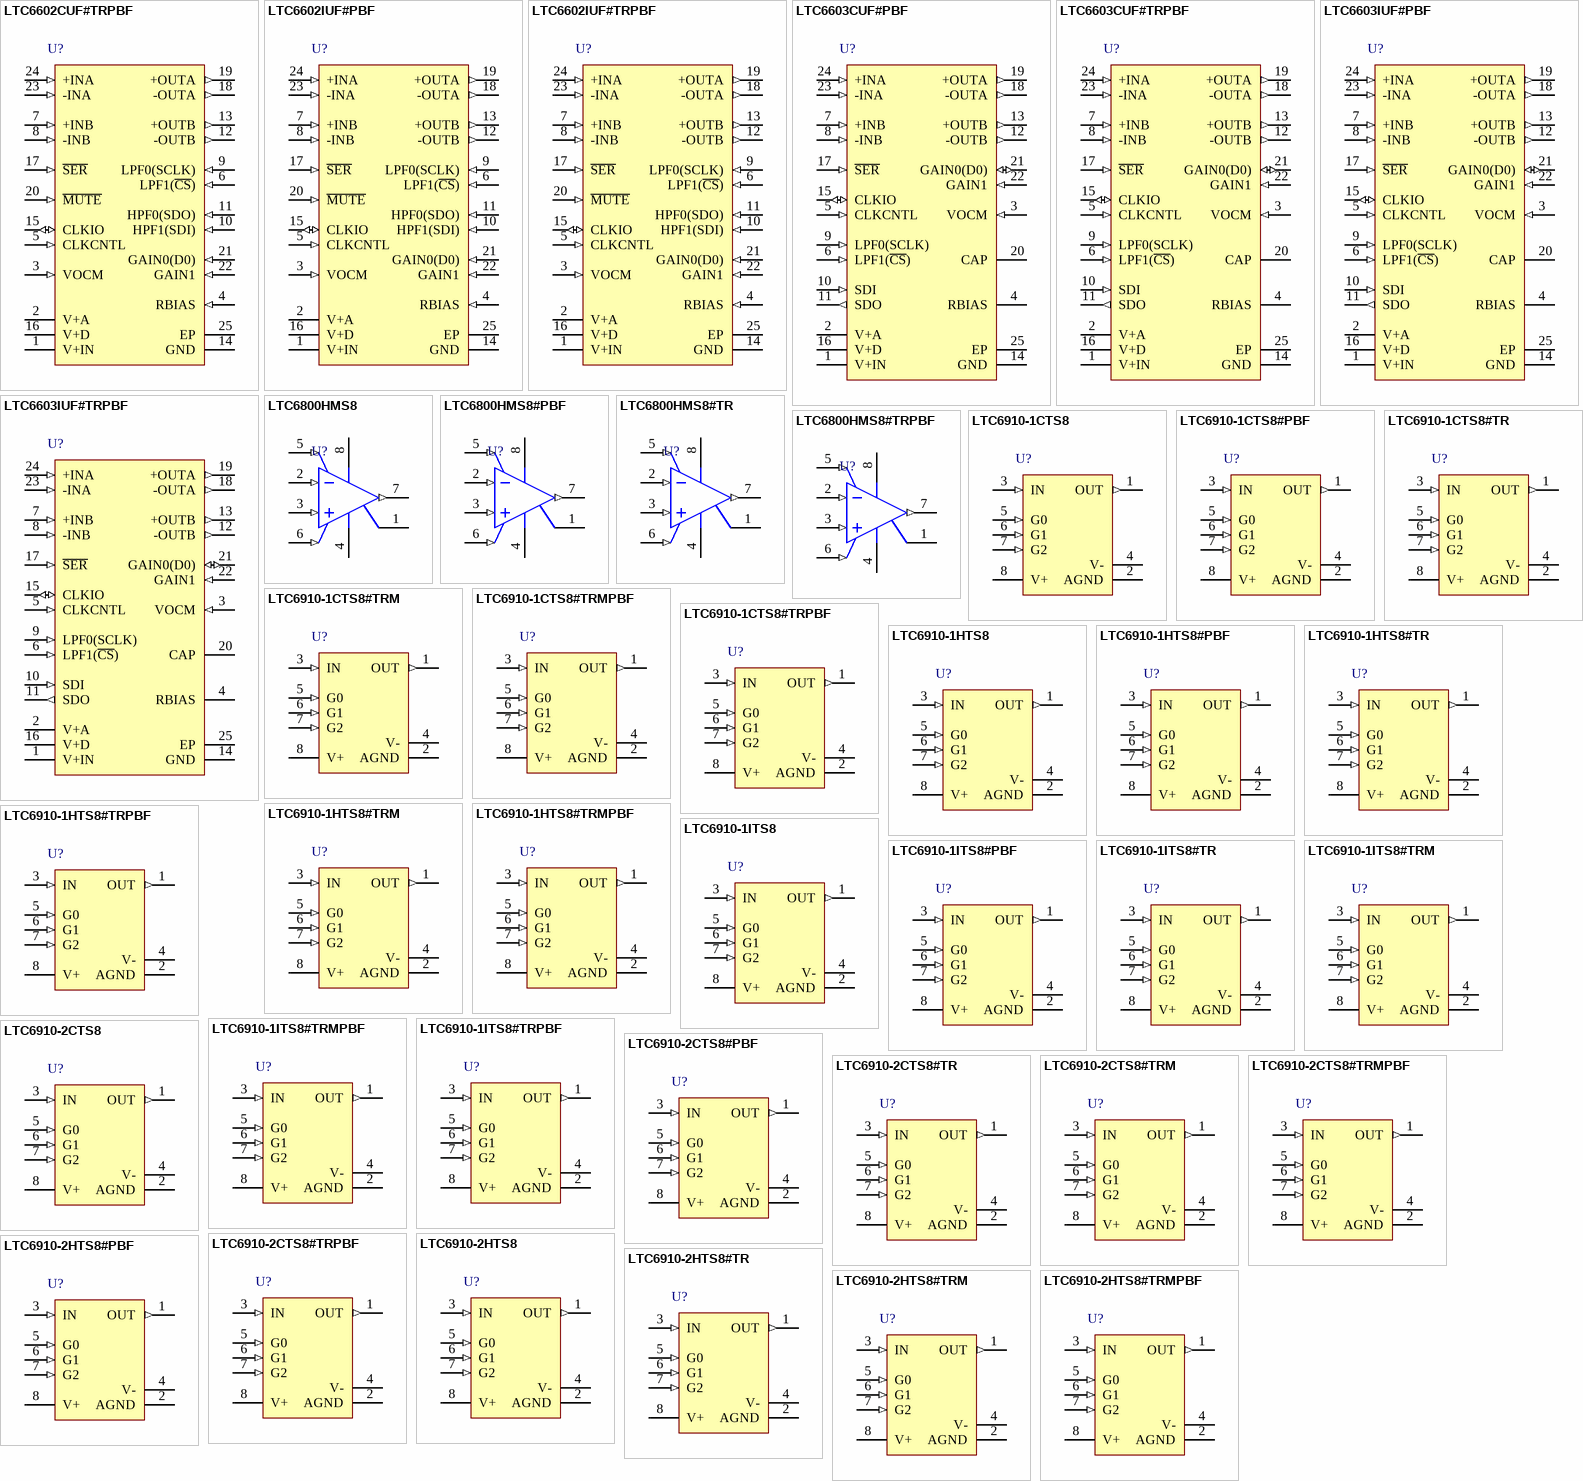
[diagram p77: symbols LTC6602CUF#TRPBF to LTC6910-2HTS8#TRMPBF]